# EAGLE library part ORG1411-PM04-TR1 (library ORG1411-PM04-TR1)
GPS MODULE WITH INTEGRATED ANTENNA Source: Datasheet <https://origingps.com/wp-content/uploads/2017/12/Datasheet-ORG1411-Series.pdf>
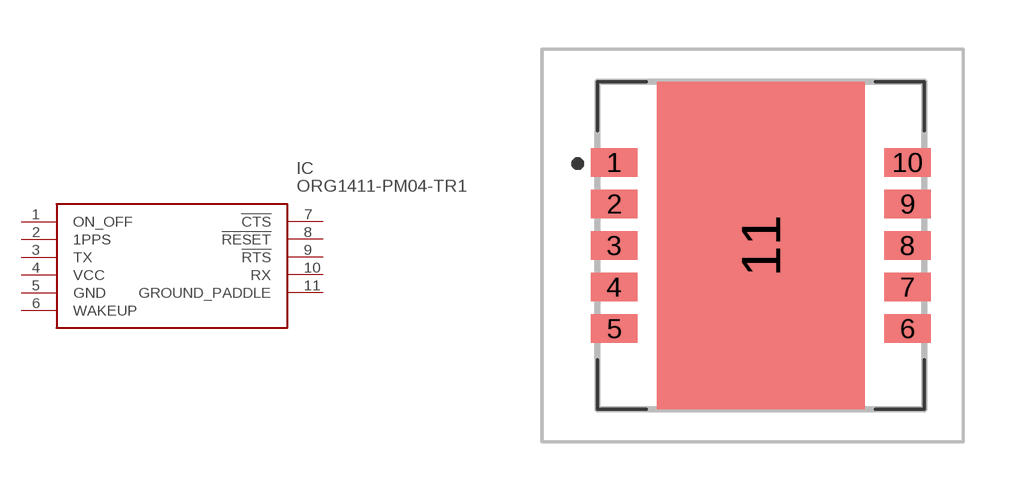
[diagram p0: symbol with the pads of ORG1411PM04TR1; footprint ORG1411PM04TR1]

Designator prefix IC

## ORG1411-PM04-TR1 (Arrow_Part_Number: ORG1411-PM04-TR1; Description: GPS MODULE WITH INTEGRATED ANTENNA; Height: 3mm; Manufacturer_Name: Origin GPS; Manufacturer_Part_Number: ORG1411-PM04-TR1)  [ORG1411PM04TR1]
1  ON_OFF
2  1PPS
3  TX
4  VCC
5  GND
6  WAKEUP
7  !CTS
8  !RESET
9  !RTS
10  RX
11  GROUND_PADDLE

## Footprint ORG1411PM04TR1 (pad centres in mm)
ORG1411-PM04-TR1
smd 1.422 x 0.864: 1 -4.233,2.54; 2 -4.233,1.27; 3 -4.233,0; 4 -4.233,-1.27; 5 -4.233,-2.54; 6 4.737,-2.54; 7 4.737,-1.27; 8 4.737,0; 9 4.737,1.27; 10 4.737,2.54
smd 6.35 x 10.008: 11 0.252,0